# Altium footprint library lib-Connectors_pcb.PcbLib: 19 footprints (part 2 of 2)
Each footprint in its own frame and in the unit in brackets; x right, y up, seen from the top. Pads: shape width x height; smd on the part's side, far side on the other; paste and mask are expansions set on the pad; w line width, h text height; cw(c..) or ccw(c..) is an arc to the next point about the centre after c.
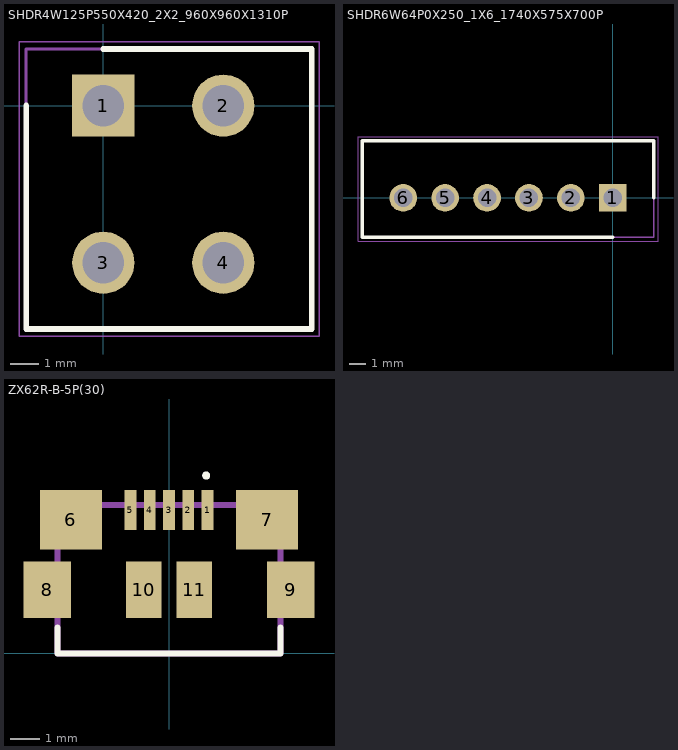
[diagram p1: the footprints below, top view; thin cyan lines are the x and y axes]

## SHDR4W125P550X420_2X2_960X960X1310P [mm]
pads (4):
  rect 2.175x2.175 / inner round 2.175 / far side rect 2.175x2.175 hole 1.45: 1(0,0)
  round 2.175 hole 1.45: 2(4.2,0) 3(0,-5.5) 4(4.2,-5.5)
Top Overlay:
  lines w0.2: -2.7,0 -2.7,-7.82 7.3,-7.82 7.3,1.98 0,1.98
Mechanical 15:
  lines w0.1: -2.7,-7.82 7.3,-7.82 7.3,1.98 -2.7,1.98 -2.7,-7.82
Mechanical 20:
  lines w0.05: -2.95,-8.07 7.55,-8.07 7.55,2.23 -2.95,2.23 -2.95,-8.07

## SHDR6W64P0X250_1X6_1740X575X700P [mm]
pads (6):
  rect 1.65x1.65 / inner round 1.65 / far side rect 1.65x1.65 hole 1.1: 1(0,0)
  round 1.65 hole 1.1: 2(-2.5,0) 3(-5,0) 4(-7.5,0) 5(-10,0) 6(-12.5,0)
Top Overlay:
  lines w0.2: 0,-2.35 -14.95,-2.35 -14.95,3.4 2.45,3.4 2.45,0
Mechanical 15:
  lines w0.1: -14.95,-2.35 -14.95,3.4 2.45,3.4 2.45,-2.35 -14.95,-2.35
Mechanical 20:
  lines w0.05: -15.2,-2.6 -15.2,3.65 2.7,3.65 2.7,-2.6 -15.2,-2.6

## ZX62R-B-5P(30) [mm]
pads (11):
  rect 0.4x1.35 smd: 1(1.3,4.825) 2(0.65,4.825) 3(0,4.825) 4(-0.65,4.825) 5(-1.3,4.825)
  rect 2.1x2 smd: 6(-3.3,4.5) 7(3.3,4.5)
  rect 1.6x1.9 smd: 8(-4.1,2.15) 9(4.1,2.15)
  rect 1.2x1.9 smd: 10(-0.85,2.15) 11(0.85,2.15)
Top Overlay:
  circle w0.2: c1.253,5.991 r0.034
  lines w0.2: -3.75,0.875 -3.75,0 3.75,0 3.75,0.875
Mechanical 13:
  lines w0.2: -3.75,0 -3.75,5 3.75,5 3.75,0 -3.75,0